# EAGLE library part 1X12_HEADER (library CONNECTORs)
A 1 row, 12 column, 12 pin 0.1" header.
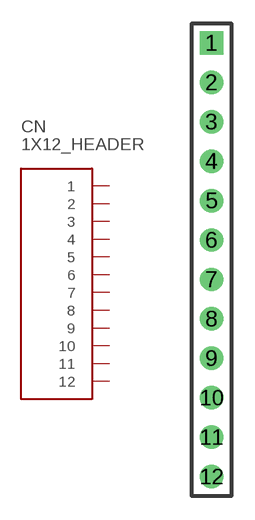
[diagram p6: symbol with the pads of 12PIN_HEADER; footprint 12PIN_HEADER]

Designator prefix CN

## 1X12_HEADER  [12PIN_HEADER]
1  1
2  2
3  3
4  4
5  5
6  6
7  7
8  8
9  9
10  10
11  11
12  12

## Footprint 12PIN_HEADER (pad centres in mm)
drill 1 pad 1.5 square: 1 0,13.97
drill 1 pad 1.5: 2 0,11.43; 3 0,8.89; 4 0,6.35; 5 0,3.81; 6 0,1.27; 7 0,-1.27; 8 0,-3.81; 9 0,-6.35; 10 0,-8.89; 11 0,-11.43; 12 0,-13.97